# EAGLE library part DIL32 (library ic-package)
Dual In Line
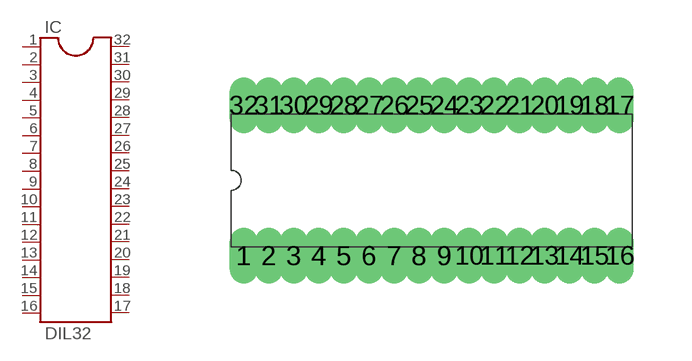
[diagram p13: symbol with the pads of DIL32; footprint DIL32]

Designator prefix IC

## DIL32  [DIL32]
1  1  pas
2  2  pas
3  3  pas
4  4  pas
5  5  pas
6  6  pas
7  7  pas
8  8  pas
9  9  pas
10  10  pas
11  11  pas
12  12  pas
13  13  pas
14  14  pas
15  15  pas
16  16  pas
17  17  pas
18  18  pas
19  19  pas
20  20  pas
21  21  pas
22  22  pas
23  23  pas
24  24  pas
25  25  pas
26  26  pas
27  27  pas
28  28  pas
29  29  pas
30  30  pas
31  31  pas
32  32  pas

## Footprint DIL32 (pad centres in mm)
Dual In Line Package
drill 0.203 long: 1 -4.763,-1.905; 2 -4.128,-1.905; 3 -3.493,-1.905; 4 -2.857,-1.905; 5 -2.223,-1.905; 6 -1.587,-1.905; 7 -0.953,-1.905; 8 -0.318,-1.905; 9 0.318,-1.905; 10 0.953,-1.905; 11 1.587,-1.905; 12 2.223,-1.905; 13 2.857,-1.905; 14 3.493,-1.905; 15 4.128,-1.905; 16 4.763,-1.905; 17 4.763,1.905; 18 4.128,1.905; 19 3.493,1.905; 20 2.857,1.905; 21 2.223,1.905; 22 1.587,1.905; 23 0.953,1.905; 24 0.318,1.905; 25 -0.318,1.905; 26 -0.953,1.905; 27 -1.587,1.905; 28 -2.223,1.905; 29 -2.857,1.905; 30 -3.493,1.905; 31 -4.128,1.905; 32 -4.763,1.905